# Altium footprint library JFD_Res.PcbLib: 4 footprints
Each footprint in its own frame and in the unit in brackets; x right, y up, seen from the top. Pads: shape width x height; smd on the part's side, far side on the other; paste and mask are expansions set on the pad; w line width, h text height; cw(c..) or ccw(c..) is an arc to the next point about the centre after c.
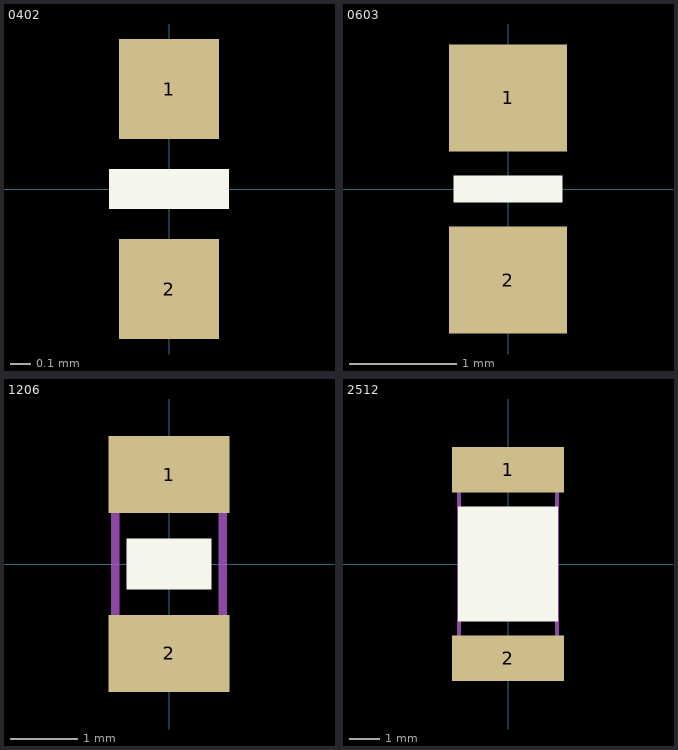
[diagram p0: the footprints below, top view; thin cyan lines are the x and y axes]

## 0402 [mm] "0402"
height 0.5
pads (2):
  rect 0.5x0.5 smd: 1(0,0.5) 2(0,-0.5)
Top Overlay:
  region: -0.3,0.1 -0.3,-0.1 0.3,-0.1 0.3,0.1
3D body: height 0.4, standoff 0, extent -0.25,-0.5 0.25,0.5

## 0603 [mm] "0603"
height 0.8
pads (2):
  rect 1.1x1 smd: 1(0,0.85) 2(0,-0.85)
Top Overlay:
  region: -0.508,0.127 -0.508,-0.127 0.508,-0.127 0.508,0.127
3D body: height 0.8, standoff 0, extent -0.4,-0.8 0.4,0.8

## 1206 [mm] "1206"
height 1
pads (2):
  rect 1.8x1.15 smd: 1(0,1.33) 2(0,-1.33)
Top Overlay:
  region: -0.635,0.381 -0.635,-0.381 0.635,-0.381 0.635,0.381
Mechanical 13:
  lines w0.125: -0.8,-1.6 0.8,-1.6 0.8,1.6 -0.8,1.6 -0.8,-1.6
3D body: height 1, standoff 0, extent -0.8,-1.6 0.8,1.6

## 2512 [mm] "2512"
height 1
pads (2):
  rect 3.7x1.5 smd: 1(0,3.125) 2(0,-3.125)
Top Overlay:
  region: -1.651,1.905 -1.651,-1.905 1.651,-1.905 1.651,1.905
Mechanical 13:
  lines w0.125: -1.625,-3.25 1.625,-3.25 1.625,3.25 -1.625,3.25 -1.625,-3.25
3D body: height 0.75, standoff 0, extent -1.625,-3.25 1.625,3.25